# Altium footprint library DRV8876.PcbLib: 4 footprints
Each footprint in its own frame and in the unit in brackets; x right, y up, seen from the top. Pads: shape width x height; smd on the part's side, far side on the other; paste and mask are expansions set on the pad; w line width, h text height; cw(c..) or ccw(c..) is an arc to the next point about the centre after c.
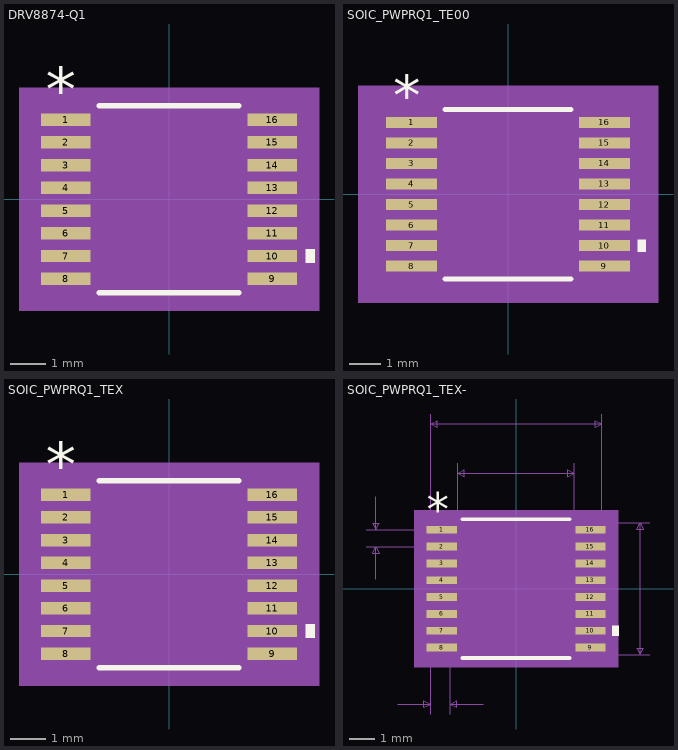
[diagram p0: the footprints below, top view; thin cyan lines are the x and y axes]

## DRV8874-Q1 [mil] "Duplicate of DRV8876"
pads (16):
  rect 55.5x14 smd paste+0 mask+0: 1(-116.25,89.56) 2(-116.25,63.98) 3(-116.25,38.38) 4(-116.25,12.79) 5(-116.25,-12.79) 6(-116.25,-38.38) 7(-116.25,-63.98) 8(-116.25,-89.56) 9(116.25,-89.56) 10(116.25,-63.98) 11(116.25,-38.38) 12(116.25,-12.79) 13(116.25,12.79) 14(116.25,38.38) 15(116.25,63.98) 16(116.25,89.56)
Top Overlay:
  region: 154,-56.48 164,-56.48 164,-71.47 154,-71.47
  lines w6: -78.92,-105.5 78.92,-105.5 ; -78.92,105.5 78.92,105.5
  text "*" at -138.75,98.56 h50
Mechanical 5:
  pour cut-out: 169,-125.5 -169,-125.5 -169,125.5 169,125.5
Mechanical 13:
  lines w0: -12,100.5 ccw(c0,100.5) 12,100.5
  lines w1: -130,-95.56 -130,-83.56 -88.5,-83.56 -88.5,-95.56 -130,-95.56 ; -130,-69.97 -130,-57.98 -88.5,-57.98 -88.5,-69.97 -130,-69.97 ; -130,-44.38 -130,-32.38 -88.5,-32.38 -88.5,-44.38 -130,-44.38 ; -130,-18.8 -130,-6.79 -88.5,-6.79 -88.5,-18.8 -130,-18.8 ; -130,6.79 -130,18.8 -88.5,18.8 -88.5,6.79 -130,6.79 ; -130,32.38 -130,44.38 -88.5,44.38 -88.5,32.38 -130,32.38 ; -130,57.98 -130,69.97 -88.5,69.97 -88.5,57.98 -130,57.98 ; -130,83.56 -130,95.56 -88.5,95.56 -88.5,83.56 -130,83.56 ; -88.5,-100.5 88.5,-100.5 88.5,100.5 -88.5,100.5 -88.5,-100.5 ; 88.5,-95.56 88.5,-83.56 130,-83.56 130,-95.56 88.5,-95.56 ; 88.5,-69.97 88.5,-57.98 130,-57.98 130,-69.97 88.5,-69.97 ; 88.5,-44.38 88.5,-32.38 130,-32.38 130,-44.38 88.5,-44.38 ; 88.5,-18.8 88.5,-6.79 130,-6.79 130,-18.8 88.5,-18.8 ; 88.5,6.79 88.5,18.8 130,18.8 130,6.79 88.5,6.79 ; 88.5,32.38 88.5,44.38 130,44.38 130,32.38 88.5,32.38 ; 88.5,57.98 88.5,69.97 130,69.97 130,57.98 88.5,57.98 ; 88.5,83.56 88.5,95.56 130,95.56 130,83.56 88.5,83.56
  text "*" at -86,47.5 h50
Mechanical 15:
  region: -98.5,-106.56 -154,-106.56 -154,106.56 -98.5,106.56 -98.5,110.5 98.5,110.5 98.5,106.56 154,106.56 154,-106.56 98.5,-106.56 98.5,-110.5 -98.5,-110.5
  lines w6: -154,-106.56 -154,106.56 -98.5,106.56 -98.5,110.5 98.5,110.5 98.5,106.56 154,106.56 154,-106.56 98.5,-106.56 98.5,-110.5 -98.5,-110.5 -98.5,-106.56 -154,-106.56
3D body: height 10, standoff 0, extent 0,0 10,10

## SOIC_PWPRQ1_TE00 [mil]
pads (16):
  rect 63.5x14 smd paste+0 mask+0: 1(-120.25,89.56) 2(-120.25,63.98) 3(-120.25,38.38) 4(-120.25,12.79) 5(-120.25,-12.79) 6(-120.25,-38.38) 7(-120.25,-63.98) 8(-120.25,-89.56) 9(120.25,-89.56) 10(120.25,-63.98) 11(120.25,-38.38) 12(120.25,-12.79) 13(120.25,12.79) 14(120.25,38.38) 15(120.25,63.98) 16(120.25,89.56)
Top Overlay:
  region: 162,-56.48 172,-56.48 172,-71.47 162,-71.47
  lines w6: -78.92,-105.5 78.92,-105.5 ; -78.92,105.5 78.92,105.5
  text "*" at -142.75,98.56 h50
Mechanical 5:
  pour cut-out: 187,-135.5 -187,-135.5 -187,135.5 187,135.5
Mechanical 13:
  lines w0: -12,100.5 ccw(c0,100.5) 12,100.5
  lines w1: -130,-95.56 -88.5,-95.56 -88.5,-83.56 -130,-83.56 -130,-95.56 ; -130,-69.97 -88.5,-69.97 -88.5,-57.98 -130,-57.98 -130,-69.97 ; -130,-44.38 -88.5,-44.38 -88.5,-32.38 -130,-32.38 -130,-44.38 ; -130,-18.8 -88.5,-18.8 -88.5,-6.79 -130,-6.79 -130,-18.8 ; -130,6.79 -88.5,6.79 -88.5,18.8 -130,18.8 -130,6.79 ; -130,32.38 -88.5,32.38 -88.5,44.38 -130,44.38 -130,32.38 ; -130,57.98 -88.5,57.98 -88.5,69.97 -130,69.97 -130,57.98 ; -130,83.56 -88.5,83.56 -88.5,95.56 -130,95.56 -130,83.56 ; -88.5,-100.5 -88.5,100.5 88.5,100.5 88.5,-100.5 -88.5,-100.5 ; 88.5,-95.56 130,-95.56 130,-83.56 88.5,-83.56 88.5,-95.56 ; 88.5,-69.97 130,-69.97 130,-57.98 88.5,-57.98 88.5,-69.97 ; 88.5,-44.38 130,-44.38 130,-32.38 88.5,-32.38 88.5,-44.38 ; 88.5,-18.8 130,-18.8 130,-6.79 88.5,-6.79 88.5,-18.8 ; 88.5,6.79 130,6.79 130,18.8 88.5,18.8 88.5,6.79 ; 88.5,32.38 130,32.38 130,44.38 88.5,44.38 88.5,32.38 ; 88.5,57.98 130,57.98 130,69.97 88.5,69.97 88.5,57.98 ; 88.5,83.56 130,83.56 130,95.56 88.5,95.56 88.5,83.56
  text "*" at -86,47.5 h50
Mechanical 15:
  region: -108.5,-116.56 -172,-116.56 -172,116.56 -108.5,116.56 -108.5,120.5 108.5,120.5 108.5,116.56 172,116.56 172,-116.56 108.5,-116.56 108.5,-120.5 -108.5,-120.5
  lines w6: 172,-116.56 108.5,-116.56 108.5,-120.5 -108.5,-120.5 -108.5,-116.56 -172,-116.56 -172,116.56 -108.5,116.56 -108.5,120.5 108.5,120.5 108.5,116.56 172,116.56
3D body: height 10, standoff 0, extent 0,0 10,10

## SOIC_PWPRQ1_TEX [mil]
pads (16):
  rect 55.5x14 smd paste+0 mask+0: 1(-116.25,89.56) 2(-116.25,63.98) 3(-116.25,38.38) 4(-116.25,12.79) 5(-116.25,-12.79) 6(-116.25,-38.38) 7(-116.25,-63.98) 8(-116.25,-89.56) 9(116.25,-89.56) 10(116.25,-63.98) 11(116.25,-38.38) 12(116.25,-12.79) 13(116.25,12.79) 14(116.25,38.38) 15(116.25,63.98) 16(116.25,89.56)
Top Overlay:
  region: 154,-56.48 164,-56.48 164,-71.47 154,-71.47
  lines w6: -78.92,-105.5 78.92,-105.5 ; -78.92,105.5 78.92,105.5
  text "*" at -138.75,98.56 h50
Mechanical 5:
  pour cut-out: 169,-125.5 -169,-125.5 -169,125.5 169,125.5
Mechanical 13:
  lines w0: -12,100.5 ccw(c0,100.5) 12,100.5
  lines w1: -130,-95.56 -130,-83.56 -88.5,-83.56 -88.5,-95.56 -130,-95.56 ; -130,-69.97 -130,-57.98 -88.5,-57.98 -88.5,-69.97 -130,-69.97 ; -130,-44.38 -130,-32.38 -88.5,-32.38 -88.5,-44.38 -130,-44.38 ; -130,-18.8 -130,-6.79 -88.5,-6.79 -88.5,-18.8 -130,-18.8 ; -130,6.79 -130,18.8 -88.5,18.8 -88.5,6.79 -130,6.79 ; -130,32.38 -130,44.38 -88.5,44.38 -88.5,32.38 -130,32.38 ; -130,57.98 -130,69.97 -88.5,69.97 -88.5,57.98 -130,57.98 ; -130,83.56 -130,95.56 -88.5,95.56 -88.5,83.56 -130,83.56 ; -88.5,-100.5 88.5,-100.5 88.5,100.5 -88.5,100.5 -88.5,-100.5 ; 88.5,-95.56 88.5,-83.56 130,-83.56 130,-95.56 88.5,-95.56 ; 88.5,-69.97 88.5,-57.98 130,-57.98 130,-69.97 88.5,-69.97 ; 88.5,-44.38 88.5,-32.38 130,-32.38 130,-44.38 88.5,-44.38 ; 88.5,-18.8 88.5,-6.79 130,-6.79 130,-18.8 88.5,-18.8 ; 88.5,6.79 88.5,18.8 130,18.8 130,6.79 88.5,6.79 ; 88.5,32.38 88.5,44.38 130,44.38 130,32.38 88.5,32.38 ; 88.5,57.98 88.5,69.97 130,69.97 130,57.98 88.5,57.98 ; 88.5,83.56 88.5,95.56 130,95.56 130,83.56 88.5,83.56
  text "*" at -86,47.5 h50
Mechanical 15:
  region: -98.5,-106.56 -154,-106.56 -154,106.56 -98.5,106.56 -98.5,110.5 98.5,110.5 98.5,106.56 154,106.56 154,-106.56 98.5,-106.56 98.5,-110.5 -98.5,-110.5
  lines w6: -154,-106.56 -154,106.56 -98.5,106.56 -98.5,110.5 98.5,110.5 98.5,106.56 154,106.56 154,-106.56 98.5,-106.56 98.5,-110.5 -98.5,-110.5 -98.5,-106.56 -154,-106.56
3D body: height 10, standoff 0, extent 0,0 10,10

## SOIC_PWPRQ1_TEX- [mil]
pads (16):
  rect 46x12 smd paste+0 mask+0: 1(-113,89.56) 2(-113,63.98) 3(-113,38.38) 4(-113,12.79) 5(-113,-12.79) 6(-113,-38.38) 7(-113,-63.98) 8(-113,-89.56) 9(113,-89.56) 10(113,-63.98) 11(113,-38.38) 12(113,-12.79) 13(113,12.79) 14(113,38.38) 15(113,63.98) 16(113,89.56)
Top Overlay:
  region: 146,-56.48 156,-56.48 156,-71.47 146,-71.47
  lines w6: -81.46,-105.5 81.46,-105.5 ; -81.46,105.5 81.46,105.5
  text "*" at -135.5,96.56 h50
Mechanical 5:
  region: 155,-119.5 -155,-119.5 -155,119.5 155,119.5
Mechanical 7:
  lines w1: -228,63.98 -113,63.98 ; -228,89.56 -113,89.56 ; -213,13.97 -213,63.98 ; -213,139.56 -213,89.56 ; -180,-175.5 -130,-175.5 ; -130,-190.5 -130,0 -130,265.5 ; -100,-190.5 -100,0 ; -88.5,0 -88.5,190.5 ; -50,-175.5 -100,-175.5 ; 0,-100.5 203.5,-100.5 ; 0,100.5 203.5,100.5 ; 88.5,0 88.5,190.5 ; 130,0 130,265.5 ; -213,63.98 -218,53.98 -208,53.98 -213,63.98 ; -213,89.56 -218,99.56 -208,99.56 -213,89.56 ; -130,-175.5 -140,-170.5 -140,-180.5 -130,-175.5 ; -130,250.5 130,250.5 ; -130,250.5 -120,255.5 -120,245.5 -130,250.5 ; -100,-175.5 -90,-170.5 -90,-180.5 -100,-175.5 ; -88.5,175.5 88.5,175.5 ; -88.5,175.5 -78.5,180.5 -78.5,170.5 -88.5,175.5 ; 88.5,175.5 78.5,180.5 78.5,170.5 88.5,175.5 ; 130,250.5 120,255.5 120,245.5 130,250.5 ; 188.5,-100.5 188.5,100.5 ; 188.5,-100.5 183.5,-90.5 193.5,-90.5 188.5,-100.5 ; 188.5,100.5 183.5,90.5 193.5,90.5 188.5,100.5
  text "0.177in/4.496mm" at -93.75,195.5 h25
  text "0.26in/6.604mm" at -87.5,270.5 h25
  text "0.026in/0.65mm" at -408,64.27 h25
  text "Default Padstyle: RX46Y12D0T" at -350,-300.5 h50
  text "Pin One Padstyle: RX46Y12D0T" at -350,-360.5 h50
  text "Alt 1 Padstyle: OX60Y90D30P" at -337.5,-540.5 h50
  text "Alt 2 Padstyle: OX90Y60D30P" at -337.5,-600.5 h50
  text "0.201in/5.105mm" at 208.5,-12.5 h25
  text "0.03in/0.762mm" at -202.5,-220.5 h25
Mechanical 13:
  lines w0: -12,100.5 ccw(c0,100.5) 12,100.5
  lines w1: -130,-95.56 -130,-83.56 -88.5,-83.56 -88.5,-95.56 -130,-95.56 ; -130,-69.97 -130,-57.98 -88.5,-57.98 -88.5,-69.97 -130,-69.97 ; -130,-44.38 -130,-32.38 -88.5,-32.38 -88.5,-44.38 -130,-44.38 ; -130,-18.8 -130,-6.79 -88.5,-6.79 -88.5,-18.8 -130,-18.8 ; -130,6.79 -130,18.8 -88.5,18.8 -88.5,6.79 -130,6.79 ; -130,32.38 -130,44.38 -88.5,44.38 -88.5,32.38 -130,32.38 ; -130,57.98 -130,69.97 -88.5,69.97 -88.5,57.98 -130,57.98 ; -130,83.56 -130,95.56 -88.5,95.56 -88.5,83.56 -130,83.56 ; -88.5,-100.5 88.5,-100.5 88.5,100.5 -88.5,100.5 -88.5,-100.5 ; 88.5,-95.56 88.5,-83.56 130,-83.56 130,-95.56 88.5,-95.56 ; 88.5,-69.97 88.5,-57.98 130,-57.98 130,-69.97 88.5,-69.97 ; 88.5,-44.38 88.5,-32.38 130,-32.38 130,-44.38 88.5,-44.38 ; 88.5,-18.8 88.5,-6.79 130,-6.79 130,-18.8 88.5,-18.8 ; 88.5,6.79 88.5,18.8 130,18.8 130,6.79 88.5,6.79 ; 88.5,32.38 88.5,44.38 130,44.38 130,32.38 88.5,32.38 ; 88.5,57.98 88.5,69.97 130,69.97 130,57.98 88.5,57.98 ; 88.5,83.56 88.5,95.56 130,95.56 130,83.56 88.5,83.56
  text "*" at -86,47.5 h50
Mechanical 15:
  region: -92.5,-99.56 -140,-99.56 -140,99.56 -92.5,99.56 -92.5,104.5 92.5,104.5 92.5,99.56 140,99.56 140,-99.56 92.5,-99.56 92.5,-104.5 -92.5,-104.5
  lines w6: -140,-99.56 -140,99.56 -92.5,99.56 -92.5,104.5 92.5,104.5 92.5,99.56 140,99.56 140,-99.56 92.5,-99.56 92.5,-104.5 -92.5,-104.5 -92.5,-99.56 -140,-99.56
3D body: height 10, standoff 0, extent 0,0 10,10